# Altium integrated library ECS-400-18-33-JGN-TR3.IntLib: 1 symbol
Pins are listed as number, name and electrical type; pins without a type are passive.

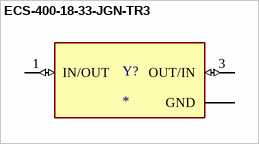
[diagram p0: symbol ECS-400-18-33-JGN-TR3]

## ECS-400-18-33-JGN-TR3
designator Y?
MP: ECS-400-18-33-JGN-TR3; MF: {'manufacturer': u'ECS Inc.'}; Value: *; Price: None; Package: None; Availability: Unavailable
footprint XTAL_ECS-400-18-33-JGN-TR3
pins: 1 IN/OUT (io), 2 GND (power), 3 OUT/IN (io), 4 GND (power)